# EAGLE library part 74LS76 (library Library 74LS)
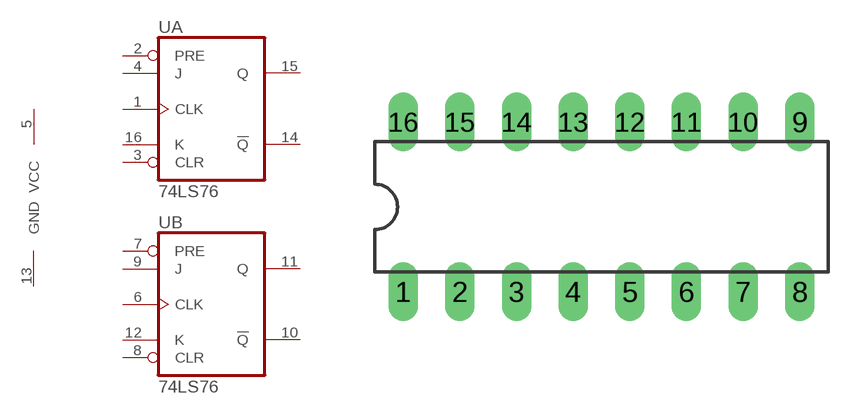
[diagram p1: symbol with the pads of DIO16; footprint DIO16]

Designator prefix -; gates A=74LS76 B=74LS76 G$3=POWER

## 74LS76  [DIO16]
1  A:CLK  in
2  A:PRE  in
3  A:CLR  in
4  A:J  in
5  G$3:VCC
6  B:CLK  in
7  B:PRE  in
8  B:CLR  in
9  B:J  in
10  B:!Q  out
11  B:Q  out
12  B:K  in
13  G$3:GND
14  A:!Q  out
15  A:Q  out
16  A:K  in

## Footprint DIO16 (pad centres in mm)
drill 0.813 long: 1 -15.24,-3.81; 2 -12.7,-3.81; 3 -10.16,-3.81; 4 -7.62,-3.81; 5 -5.08,-3.81; 6 -2.54,-3.81; 7 0,-3.81; 8 2.54,-3.81; 9 2.54,3.81; 10 0,3.81; 11 -2.54,3.81; 12 -5.08,3.81; 13 -7.62,3.81; 14 -10.16,3.81; 15 -12.7,3.81; 16 -15.24,3.81